# EAGLE library part TXS0108 (library deiring-components)
Bi-directional Level-Shifting Voltage Translator for Open-Drain and Push-Pull
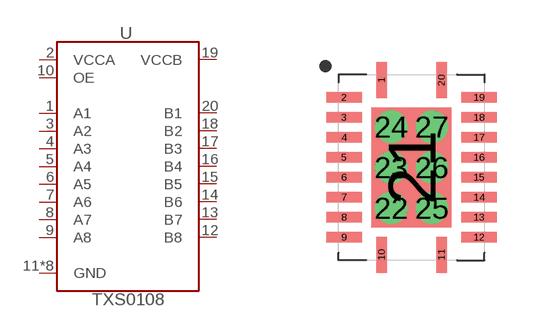
[diagram p3: symbol with the pads of VQFN-20; footprint VQFN-20]

Designator prefix U

## TXS0108-VQFN-20 (LCSC: C90706; MF: Texas Instruments; MPN: TXS0108ERGYR; VALUE: TXS0108)  [VQFN-20]
1  A1
2  VCCA  pwr
3  A2
4  A3
5  A4
6  A5
7  A6
8  A7
9  A8
10  OE
11  GND  pwr
12  B8
13  B7
14  B6
15  B5
16  B4
17  B3
18  B2
19  VCCB  pwr
20  B1
21  GND  pwr
22  GND  pwr
23  GND  pwr
24  GND  pwr
25  GND  pwr
26  GND  pwr
27  GND  pwr

## Footprint VQFN-20 (pad centres in mm)
smd 0.264 x 0.896: 1 -0.75,2.187; 10 -0.75,-2.187; 11 0.75,-2.187; 20 0.75,2.187
smd 0.896 x 0.264: 2 -1.687,1.75; 3 -1.687,1.25; 4 -1.687,0.75; 5 -1.687,0.25; 6 -1.687,-0.25; 7 -1.687,-0.75; 8 -1.687,-1.25; 9 -1.687,-1.75; 12 1.687,-1.75; 13 1.687,-1.25; 14 1.687,-0.75; 15 1.687,-0.25; 16 1.687,0.25; 17 1.687,0.75; 18 1.687,1.25; 19 1.687,1.75
smd 2 x 3: 21 0,0
drill 0.3 pad 0.5: 22 -0.508,-1.016; 23 -0.508,0; 24 -0.508,1.016; 25 0.508,-1.016; 26 0.508,0; 27 0.508,1.016